# Altium schematic symbol library Infineon Transceiver.SchLib: 31 symbols (part 2 of 2)
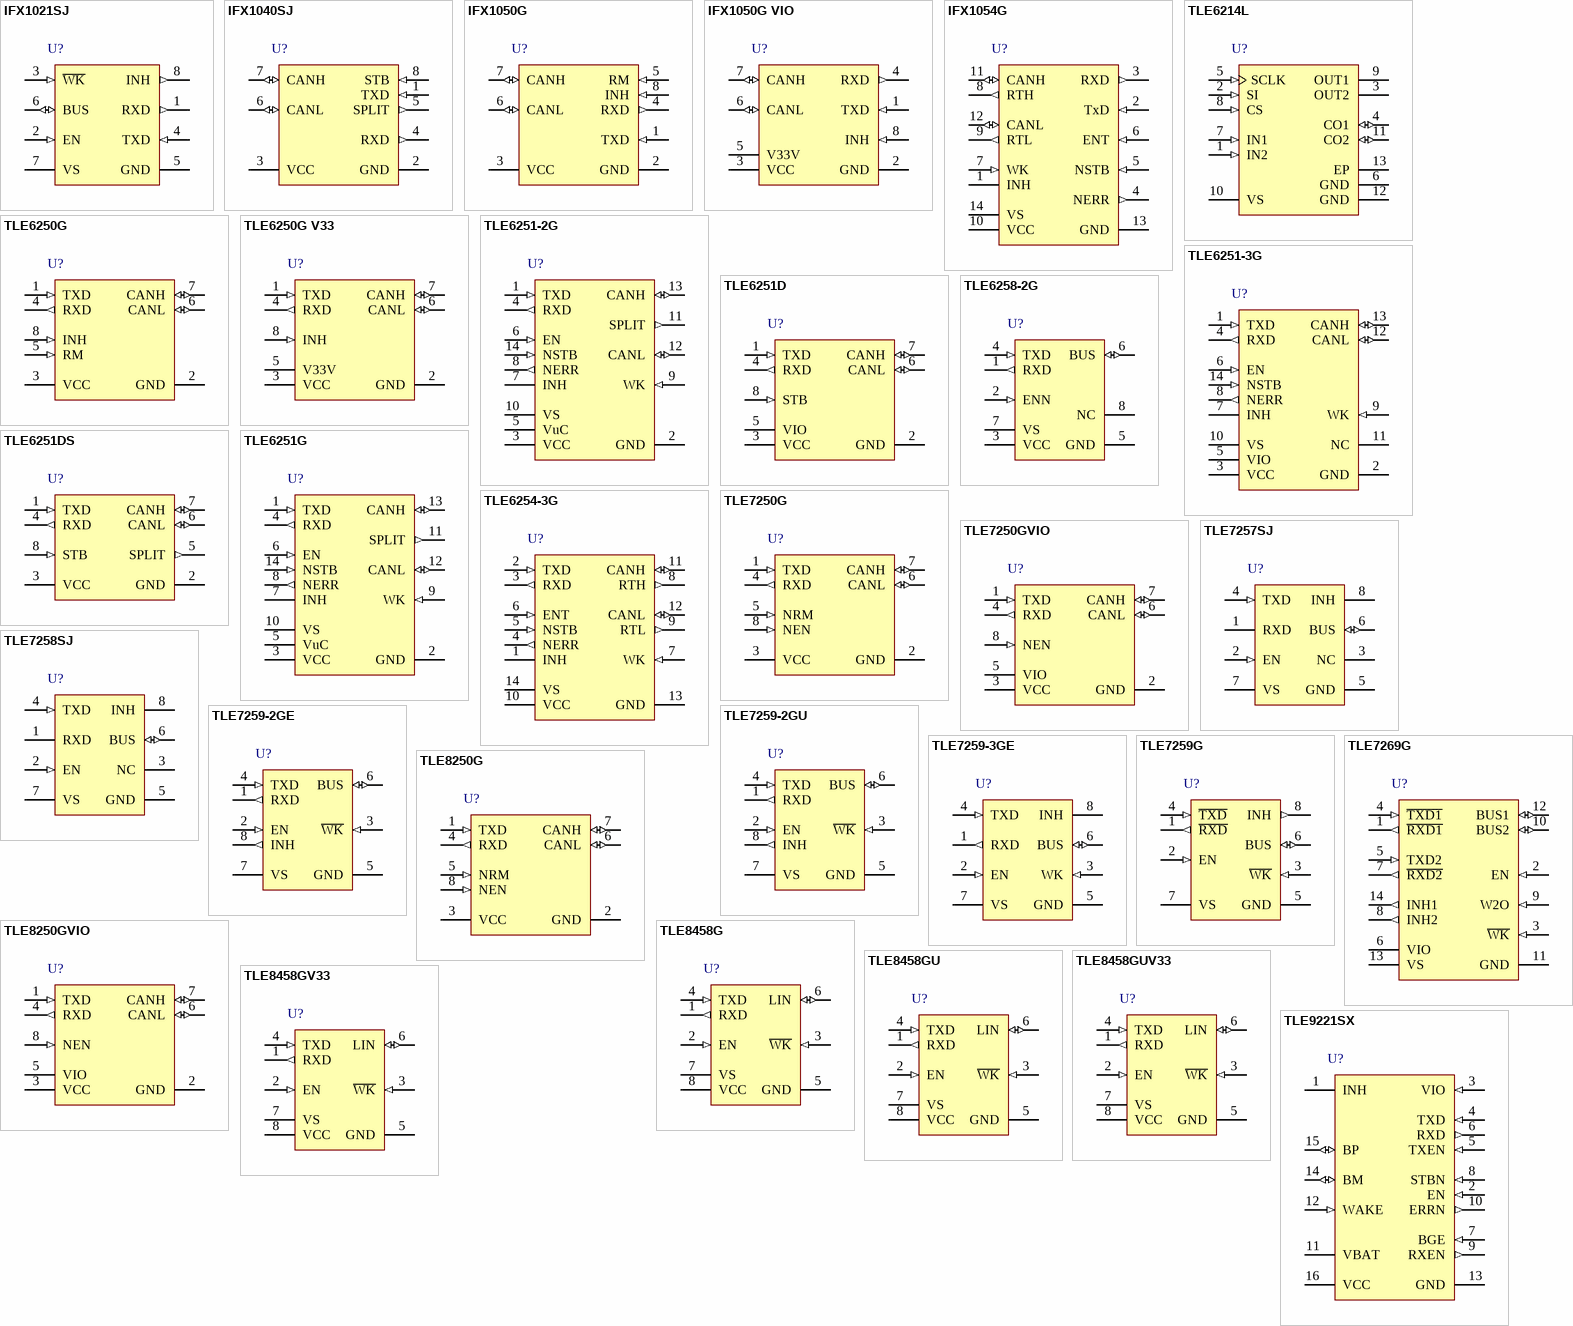
[diagram p1: symbols IFX1021SJ to TLE9221SX]

## TLE7259-2GE
designator U?
LIN Transceiver, 20 kbit/s Transmission Rate, PG-DSO-8-16, Reel, Green; Manufacturer: Infineon; PartNumber: TLE7259-2GE; Bus Wake-up capability: TRUE; Quiescent Current (max.): < 10 uA sleep mode; Standards: LIN 1.2, 1.3, 2, 2.1; Wake-up inputs: Bus wake-up + wake-up pin; DatasheetVersion: Rev. 1.2; PackageVersion: Mar-07; PackageReference: PG-DSO-8-16; PackageDescription: 8-Pin Plastic (Green) Dual Small Outline Package, 4.9 x 3.9 mm Body, 1.27 mm Pitch; Supplier 1: Mouser; Supplier Part Number 1: 726-TLE7259-2GE; Supplier 2: Newark; Supplier Part Number 2: 79X2067; Supplier 3: Farnell; Supplier Part Number 3: 2432695; Supplier 4: Digi-Key; Supplier Part Number 4: TLE7259-2GEINTR-ND; Supplier 5: Digi-Key; Supplier Part Number 5: TLE7259-2GEINCT-ND; Supplier 6: Digi-Key; Supplier Part Number 6: TLE7259-2GEINDKR-ND; Green: TRUE; Halogen-free: TRUE; Packing: Reel; Transmission rate (max.): 20 kbit/s; Mounting Technology: Surface Mount; ComponentLink1Description: Manufacturer URL; ComponentLink1URL: http://www.infineon.com/; ComponentLink2Description: Datasheet; ComponentLink2URL: http://www.infineon.com/dgdl/TLE7259-2GE_DS_rev12.pdf?folderId=db3a3043163797a6011666d32a0c0de1&fileId=db3a3043163797a6011666d4dbb80de2&location=en.Products.Automotive_ICs.Automotive_Transceivers.LIN_Transceivers.DATASHEET.TLE7259-2GE_DS_rev12.pdf; ComponentLink3Description: Package Specification; ComponentLink3URL: http://www.infineon.com/dgdl/TLE7259-2GE_DS_rev12.pdf?folderId=db3a3043163797a6011666d32a0c0de1&fileId=db3a3043163797a6011666d4dbb80de2&location=en.Products.Automotive_ICs.Automotive_Transceivers.LIN_Transceivers.DATASHEET.TLE7259-2GE_DS_rev12.pdf
footprint INF-PG-DSO-8-16_N (SOP, 8-Leads, Body 4.9x3.9mm, Pitch 1.27mm, IPC Medium Density)
footprint INF-PG-DSO-8-16_L (SOP, 8-Leads, Body 4.9x3.9mm, Pitch 1.27mm, IPC High Density)
footprint INF-PG-DSO-8-16_M (SOP, 8-Leads, Body 4.9x3.9mm, Pitch 1.27mm, IPC Low Density)
pins: 1 RXD (out) "Receive data output; External Pull Up necessary LOW in dominant state, active LOW after a Wake-Up event at BUS or WK pin", 2 EN (in) "Enable input; integrated pull-down, device set to normal operation mode when HIGH", 3 ~{WK} (in) "Wake input; active LOW, negative edge triggered, internal pull-up", 4 TXD (in) "Transmit data input; integrated pull-down, LOW in dominant state; active LOW after Wake-Up via WK pin", 5 GND (power) "Ground", 6 BUS (io) "Bus input / output; LIN bus line input / output LOW in dominant state Internal termination and pull-up current source", 7 VS (power) "Battery supply input", 8 INH (out) "Inhibit output; battery supply related output HIGH (VS) in Normal and Stand-By operation mode can be used to control an external voltage regulator can be used to control external bus termination resistor when the device will (See Datasheet)"

## TLE7259-2GU
designator U?
LIN Transceiver, 10.4 kbit/s Transmission Rate, PG-DSO-8-16, Reel, Green; Manufacturer: Infineon; PartNumber: TLE7259-2GU; Bus Wake-up capability: TRUE; Quiescent Current (max.): < 10 uA sleep mode; Standards: LIN 1.2, 1.3, 2, 2.1, SAEJ2602; Wake-up inputs: Bus wake-up + wake-up pin; DatasheetVersion: Rev. 1.1; PackageVersion: Mar-07; PackageReference: PG-DSO-8-16; PackageDescription: 8-Pin Plastic (Green) Dual Small Outline Package, 4.9 x 3.9 mm Body, 1.27 mm Pitch; Supplier 1: Mouser; Supplier Part Number 1: 726-TLE7259-2GU; Supplier 2: Digi-Key; Supplier Part Number 2: TLE7259-2GUINTR-ND; Supplier 3: Digi-Key; Supplier Part Number 3: TLE7259-2GUINCT-ND; Supplier 4: Digi-Key; Supplier Part Number 4: TLE7259-2GUINDKR-ND; Green: TRUE; Halogen-free: TRUE; Packing: Reel; Transmission rate (max.): 10.4 kbit/s; Mounting Technology: Surface Mount; ComponentLink1Description: Manufacturer URL; ComponentLink1URL: http://www.infineon.com/; ComponentLink2Description: Datasheet; ComponentLink2URL: http://www.infineon.com/dgdl/TLE7259-2GU_DS_rev11.pdf?folderId=db3a3043163797a6011666d32a0c0de1&fileId=db3a304318f3fe29011909db15cd2a5f&location=en.Products.Automotive_ICs.Automotive_Transceivers.LIN_Transceivers.DATASHEET.TLE7259-2GU_DS_rev11.pdf; ComponentLink3Description: Package Specification; ComponentLink3URL: http://www.infineon.com/dgdl/TLE7259-2GE_DS_rev12.pdf?folderId=db3a3043163797a6011666d32a0c0de1&fileId=db3a3043163797a6011666d4dbb80de2&location=en.Products.Automotive_ICs.Automotive_Transceivers.LIN_Transceivers.DATASHEET.TLE7259-2GE_DS_rev12.pdf
footprint INF-PG-DSO-8-16_N (SOP, 8-Leads, Body 4.9x3.9mm, Pitch 1.27mm, IPC Medium Density)
footprint INF-PG-DSO-8-16_L (SOP, 8-Leads, Body 4.9x3.9mm, Pitch 1.27mm, IPC High Density)
footprint INF-PG-DSO-8-16_M (SOP, 8-Leads, Body 4.9x3.9mm, Pitch 1.27mm, IPC Low Density)
pins: 1 RXD (out) "Receive data output; External Pull Up necessary LOW in dominant state, active LOW after a Wake-Up event at BUS or WK pin", 2 EN (in) "Enable input; integrated pull-down, device set to normal operation mode when HIGH", 3 ~{WK} (in) "Wake input; active LOW, negative edge triggered, internal pull-up", 4 TXD (in) "Transmit data input; integrated pull-down, LOW in dominant state; active LOW after Wake-Up via WK pin", 5 GND (power) "Ground", 6 BUS (io) "Bus input / output; LIN bus line input / output LOW in dominant state Internal termination and pull-up current source", 7 VS (power) "Battery supply input", 8 INH (out) "Inhibit output; battery supply related output HIGH (VS) in Normal and Stand-By operation mode can be used to control an external voltage regulator can be used to control external bus termination resistor when the device will (See Datasheet)"

## TLE7259-3GE
designator U?
20 kbit/s LIN Transceiver, PG-DSO-8, Reel, Green; Manufacturer: Infineon; PartNumber: TLE7259-3GE; Additional Features: INH, EN, WK; Bus Wake-up capability: TRUE; Quiescent Current (max): < 10 uA sleep mode; Standards: LIN 1.2, 1.3, 2.0, 2.1, 2.2, 2.2A; Wake-up inputs: Bus wake-up + wake-up pin; DatasheetVersion: Rev. 1.0; PackageVersion: Mar-07; PackageReference: PG-DSO-8-16; PackageDescription: 8-Pin Plastic (Green) Dual Small Outline Package, 4.9 x 3.9 mm Body, 1.27 mm Pitch; Supplier 1: Mouser; Supplier Part Number 1: N/A; Green: TRUE; Halogen-free: TRUE; Packing: Reel; Transmission rate (max): 20 kbit/s; Mounting Technology: Surface Mount; ComponentLink1Description: Manufacturer URL; ComponentLink1URL: http://www.infineon.com/; ComponentLink2Description: Datasheet; ComponentLink2URL: http://www.infineon.com/dgdl/TLE7259-3_DS_rev10.pdf?folderId=db3a3043163797a6011666d32a0c0de1&fileId=db3a304340cdf0fd0140de8603fc0085; ComponentLink3Description: Package Specification; ComponentLink3URL: http://www.infineon.com/cms/packages/SMD_-_Surface_Mounted_Devices/P-PG-DSO/P-PG-DSO-08-16x_-24x_-25x_-28x_-31x_-33x_-36x_-44x_-49.html?__locale=en
footprint INF-PG-DSO-8-16_N (SOP, 8-Leads, Body 4.9x3.9mm, Pitch 1.27mm, IPC Medium Density)
footprint INF-PG-DSO-8-16_L (SOP, 8-Leads, Body 4.9x3.9mm, Pitch 1.27mm, IPC High Density)
footprint INF-PG-DSO-8-16_M (SOP, 8-Leads, Body 4.9x3.9mm, Pitch 1.27mm, IPC Low Density)
pins: 1 RXD (out) "Receive data output", 2 EN (in) "Enable input", 3 WK (in) "Wake input", 4 TXD (in) "Transmit data input", 5 GND (power) "Ground", 6 BUS (io) "Bus input / output", 7 VS (power) "Battery supply input", 8 INH (hiz) "Inhibit output"

## TLE7259G
designator U?
LIN Transceiver, -40 to 150 degC, PG-DSO-8-3, Reel; Manufacturer: Infineon; PartNumber: TLE7259G; Green: FALSE; DatasheetVersion: Rev. 2.1; PackageReference: PG-DSO-8-3; PackageDescription: 8-Pin Plastic (Green) Dual Small Outline Package, 4.9 x 3.9 mm Body, 1.27 mm Pitch; Supplier 1: Mouser; Supplier Part Number 1: 726-TLE7259G; Supplier 2: Digi-Key; Supplier Part Number 2: TLE7259GTR-ND; Supplier 3: Digi-Key; Supplier Part Number 3: TLE7259GCT-ND; Supplier 4: Digi-Key; Supplier Part Number 4: TLE7259GDKR-ND; Halogen-free: FALSE; Mounting Technology: Surface Mount; ComponentLink1Description: Manufacturer URL; ComponentLink1URL: http://www.infineon.com/; ComponentLink2Description: Datasheet; ComponentLink2URL: http://www.infineon.com/dgdl/TLE7259G_DS_V21.pdf?folderId=db3a304412b407950112b408e8c90004&fileId=db3a304412b407950112b436c8ec66cc&location=en.Products.Automotive_ICs.Automotive_Transceivers.LIN_Transceivers.DATASHEET.TLE7259G_DS_V21.pdf; ComponentLink3Description: Package Specification; ComponentLink3URL: http://www.infineon.com/cms/packages/SMD_-_Surface_Mounted_Devices/P-PG-DSO/P-PG-DSO-08-03x_-6x_-7x_-8x_-10x_-13x_-15x_-18x_-19x_-20x_-23.html?__locale=en
footprint INF-PG-DSO-8-3_N (SOP, 8-Leads, Body 4.9x3.9mm, Pitch 1.27mm, IPC Medium Density)
footprint INF-PG-DSO-8-3_L (SOP, 8-Leads, Body 4.9x3.9mm, Pitch 1.27mm, IPC High Density)
footprint INF-PG-DSO-8-3_M (SOP, 8-Leads, Body 4.9x3.9mm, Pitch 1.27mm, IPC Low Density)
pins: 1 ~{RXD} (out) "Receive data output; External Pull Up necessary LOW in dominant state, active LOW after a wake-up event at Bus or WK pin", 2 EN (in) "Enable input; integrated pull-down, device in normal operation mode when HIGH", 3 ~{WK} (in) "Wake input; active LOW, negative edge triggered, internal pull-up", 4 ~{TXD} (in) "Transmit data input; integrated pull-down, LOW in dominant state; active LOW after wake-up via WK pin", 5 GND (power) "Ground", 6 BUS (io) "Bus output/input; LIN bus line input/output LOW in dominant state Internal pull-up", 7 VS (power) "Battery supply input", 8 INH (out) "Inhibit output; battery supply related output HIGH (VS) in Normal and Stand-By operation mode can be used to control an external voltage regulator can be used to control external bus termination resistor when the device will (See Datasheet)"

## TLE7269G
designator U?
Twin LIN Transceiver, 20 kbit/s Transmission Rate, PG-DSO-14-24, Reel, Green; Manufacturer: Infineon; PartNumber: TLE7269G; Bus Wake-up capability: TRUE; Quiescent Current (max.): < 10 uA sleep mode; Standards: LIN 1.2, 1.3, 2, 2.1, SAEJ2602; Wake-up inputs: Bus wake-up + wake-up pin; DatasheetVersion: Rev. 1.2; PackageVersion: Jun-11; PackageReference: PG-DSO-14-24; PackageDescription: 14-Pin Plastic (Green) Dual Small Outline Package, 8.65 x 3.9 mm Body, 1.27 mm Pitch; Supplier 1: Mouser; Supplier Part Number 1: 726-TLE7269G; Supplier 2: Digi-Key; Supplier Part Number 2: TLE7269GTR-ND; Supplier 3: Digi-Key; Supplier Part Number 3: TLE7269GCT-ND; Supplier 4: Digi-Key; Supplier Part Number 4: TLE7269GDKR-ND; Green: TRUE; Halogen-free: TRUE; Packing: Reel; Transmission rate (max.): 20 kbit/s; Mounting Technology: Surface Mount; ComponentLink1Description: Manufacturer URL; ComponentLink1URL: http://www.infineon.com/; ComponentLink2Description: Datasheet; ComponentLink2URL: http://www.infineon.com/dgdl/TLE7269G_DS_12.pdf?folderId=db3a3043163797a6011666d32a0c0de1&fileId=db3a3043163797a6011666d6865a0de4&location=en.Products.Automotive_ICs.Automotive_Transceivers.LIN_Transceivers.DATASHEET.TLE7269G_DS_12.pdf; ComponentLink3Description: Package Specification; ComponentLink3URL: http://www.infineon.com/dgdl/TLE6251-3G_DS_rev11.pdf?folderId=db3a30431ed1d7b2011edadb13813703&fileId=db3a30433072cd8f0130746653050039&sId=db3a30443d67b5ca013d7f4322262b6a
footprint INF-PG-DSO-14-24_N (SOP, 14-Leads, Body 8.65x3.9mm, Pitch 1.27mm, IPC Medium Density)
footprint INF-PG-DSO-14-24_L (SOP, 14-Leads, Body 8.65x3.9mm, Pitch 1.27mm, IPC High Density)
footprint INF-PG-DSO-14-24_M (SOP, 14-Leads, Body 8.65x3.9mm, Pitch 1.27mm, IPC Low Density)
pins: 1 ~{RXD1} (out) "Receive data output 1; LOW in dominant state,active LOW after a Wake-Up event at BUS1 or WK pin", 2 EN (in) "Enable input; integrated pull-down,device set to normal operation mode when HIGH", 3 ~{WK} (in) "Wake input; active LOW, negative edge triggered, internal pull-up", 4 ~{TXD1} (in) "Transmit data input 1; intergrated pull-down, LOW in dominant state, active LOW after Wake-Up via WK pin", 5 TXD2 (in) "Transmit data input 2; intergrated pull-down, LOW in dominant state.", 6 VIO (power) "Logic Voltage supply input; 3.3V or 5V supply for the RxD and TxD pins", 7 ~{RXD2} (out) "Receive data output 2; LOW in dominant state, active LOW after a Wake-Up event at BUS2", 8 INH2 (out) "Inhibit output 2; battery supply related output. HIGH(Vs) in Normal and Stand-By operation mode. can be used to control an external voltage regulator. can be used to control external bus termination resistor when the device (See Datasheet)", 9 W2O (in) "Wake BUS 2 OFF; swirch off Wake-Up feature on BUS 2; active HIGH, integrated pull-down", 10 BUS2 (io) "Bus 2 input/output. LIN bus line input/output. LOW in dominant state. Inernal termination and pull-up current source", 11 GND (power) "Ground", 12 BUS1 (io) "Bus 1 input/output. LIN bus line input/output. LOW in dominant state. Inernal termination and pull-up current source", 13 VS (power) "Battery supply input", 14 INH1 (out) "Inhibit output 1; battery supply related output. HIGH(Vs) in Normal and Stand-By operation mode. can be used to control an external voltage regulator. can be used to control external bus termination resistor when the device (See Datasheet)"

## TLE8250G
designator U?
High Speed CAN-Transceiver, 1 Mbit/s Transmission Rate, PG-DSO-8-16, Reel, Green; Manufacturer: Infineon; PartNumber: TLE8250G; Bus Wake-up capability: FALSE; Green: TRUE; Quiescent Current (max.): < 15 uA @ 5V standby; Standards: ISO11898-2; Wake-up inputs: no; DatasheetVersion: Rev. 1.0; PackageVersion: Mar-07; PackageReference: PG-DSO-8-16; PackageDescription: 8-Pin Plastic (Green) Dual Small Outline Package, 4.9 x 3.9 mm Body, 1.27 mm Pitch; Supplier 1: Mouser; Supplier Part Number 1: 726-TLE8250G; Supplier 2: Digi-Key; Supplier Part Number 2: TLE8250G-ND; Group: High Speed; Halogen-free: TRUE; Packing: Reel; Transmission rate max: 1 Mbit/s; Mounting Technology: Surface Mount; ComponentLink1Description: Manufacturer URL; ComponentLink1URL: http://www.infineon.com/; ComponentLink2Description: Datasheet; ComponentLink2URL: http://www.infineon.com/dgdl/CAN-Transceiver-TLE8250G-data-sheet-Infineon.pdf?folderId=db3a30431ed1d7b2011edadb13813703&fileId=db3a304329a0f6ee0129a18e35e40013&location=en.Products.Automotive_ICs.Automotive_Transceivers.CAN_Transceivers.DATASHEET.CAN-Transceiver-TLE8250G-data-sheet-Infineon.pdf; ComponentLink3Description: Package Specification; ComponentLink3URL: http://www.infineon.com/dgdl/TLE7259-2GE_DS_rev12.pdf?folderId=db3a3043163797a6011666d32a0c0de1&fileId=db3a3043163797a6011666d4dbb80de2&location=en.Products.Automotive_ICs.Automotive_Transceivers.LIN_Transceivers.DATASHEET.TLE7259-2GE_DS_rev12.pdf
footprint INF-PG-DSO-8-16_N (SOP, 8-Leads, Body 4.9x3.9mm, Pitch 1.27mm, IPC Medium Density)
footprint INF-PG-DSO-8-16_L (SOP, 8-Leads, Body 4.9x3.9mm, Pitch 1.27mm, IPC High Density)
footprint INF-PG-DSO-8-16_M (SOP, 8-Leads, Body 4.9x3.9mm, Pitch 1.27mm, IPC Low Density)
pins: 1 TXD (in) "Transmit Data Input; internal pull-up to VCC, "low" for "dominant" state.", 2 GND (power) "Ground", 3 VCC (power) "Transceiver Supply Voltage; 100 nF decoupling capacitor to GND required.", 4 RXD (out) "Receive Data Output; "low"  in "dominant" state.", 5 NRM (in) "Not Receive-only Mode Input ;  control input for selecting receive-only mode, internal pull-up, to VCC , "low" for receive-only mode.", 6 CANL (io) "CAN Bus Low Level I/O; "low" in "dominant" state.", 7 CANH (io) "CAN Bus Low Level I/O; "high" in "dominant" state.", 8 NEN (in) "Not Enable Input ;  internal pull-up to VCC ,  "low" to select normal-operation mode or receive-only mode."

## TLE8250GVIO
designator U?
High Speed CAN-Transceiver, 1 Mbit/s Transmission Rate, PG-DSO-8-16, Reel, Green; Manufacturer: Infineon; PartNumber: TLE8250GVIO; Bus Wake-up capability: FALSE; Green: TRUE; Quiescent Current (max.): < 15 uA @ 5V standby; Standards: ISO11898-2; Wake-up inputs: no; DatasheetVersion: Rev. 1.0; PackageVersion: Mar-07; PackageReference: PG-DSO-8-16; PackageDescription: 8-Pin Plastic (Green) Dual Small Outline Package, 4.9 x 3.9 mm Body, 1.27 mm Pitch; Supplier 1: Mouser; Supplier Part Number 1: 726-TLE8250GVIO; Supplier 2: Digi-Key; Supplier Part Number 2: TLE8250GVIO-ND; Group: High Speed; Halogen-free: TRUE; Packing: Reel; Transmission rate max: 1 Mbit/s; Mounting Technology: Surface Mount; ComponentLink1Description: Manufacturer URL; ComponentLink1URL: http://www.infineon.com/; ComponentLink2Description: Datasheet; ComponentLink2URL: http://www.infineon.com/dgdl/TLE8250GVIO_DS_Rev10.pdf?folderId=db3a30431ed1d7b2011edadb13813703&fileId=db3a30432b57a660012b67ea91880b46&location=en.Products.Automotive_ICs.Automotive_Transceivers.CAN_Transceivers.DATASHEET.TLE8250GVIO_DS_Rev10.pdf; ComponentLink3Description: Package Specification; ComponentLink3URL: http://www.infineon.com/dgdl/TLE7259-2GE_DS_rev12.pdf?folderId=db3a3043163797a6011666d32a0c0de1&fileId=db3a3043163797a6011666d4dbb80de2&location=en.Products.Automotive_ICs.Automotive_Transceivers.LIN_Transceivers.DATASHEET.TLE7259-2GE_DS_rev12.pdf
footprint INF-PG-DSO-8-16_N (SOP, 8-Leads, Body 4.9x3.9mm, Pitch 1.27mm, IPC Medium Density)
footprint INF-PG-DSO-8-16_L (SOP, 8-Leads, Body 4.9x3.9mm, Pitch 1.27mm, IPC High Density)
footprint INF-PG-DSO-8-16_M (SOP, 8-Leads, Body 4.9x3.9mm, Pitch 1.27mm, IPC Low Density)
pins: 1 TXD (in) "Transmit Data Input; internal pull-up to VIO, "low" for "dominant" state.", 2 GND (power) "Ground", 3 VCC (power) "Transceiver Supply Voltage; 100 nF decoupling capacitor to GND required.", 4 RXD (out) "Receive Data Output; "low" for "dominant" state.", 5 VIO (power) "Digital Supply Voltage Input; supply voltage input to adapt the logical input and output voltage levels of the transceiver to the microcontroller supply. 100 nF decoupling capacitor to GND required.", 6 CANL (io) "CAN Bus Low Level I/O; "low" in "dominant" state.", 7 CANH (io) "CAN Bus High Level I/O; "high" in "dominant" state.", 8 NEN (in) "Not Enable Input ;  internal pull-up to VIO, "low" for normal-operating mode."

## TLE8458G
designator U?
LIN Transceiver with integrated Low Drop Voltage Regulator, 20 kbit/s Transmission Rate, PG-DSO-8-16, Reel, Green; Manufacturer: Infineon; PartNumber: TLE8458G; Bus Wake-up capability: TRUE; Quiescent Current (max.): < 10 uA sleep mode; Standards: LIN 1.2, 1.3, 2, 2.1, SAEJ2602; Wake-up inputs: Bus wake-up + wake-up pin; DatasheetVersion: Rev. 1.01; PackageVersion: Mar-07; PackageReference: PG-DSO-8-16; PackageDescription: 8-Pin Plastic (Green) Dual Small Outline Package, 4.9 x 3.9 mm Body, 1.27 mm Pitch; Supplier 1: Mouser; Supplier Part Number 1: 726-TLE8458G; Supplier 2: Digi-Key; Supplier Part Number 2: TLE8458G-ND; Green: TRUE; Halogen-free: TRUE; Packing: Reel; Transmission rate (max.): 20 kbit/s; Mounting Technology: Surface Mount; ComponentLink1Description: Manufacturer URL; ComponentLink1URL: http://www.infineon.com/; ComponentLink2Description: Datasheet; ComponentLink2URL: http://www.infineon.com/dgdl/DataSheet_TLE8458Gx%5B1%5D.pdf?folderId=db3a3043163797a6011666d32a0c0de1&fileId=db3a304320d39d590121f2948c610a82&location=en.Products.Automotive_ICs.Automotive_Transceivers.LIN_Transceivers.DATASHEET.DataSheet_TLE8458Gx[1].pdf; ComponentLink3Description: Package Specification; ComponentLink3URL: http://www.infineon.com/dgdl/TLE7259-2GE_DS_rev12.pdf?folderId=db3a3043163797a6011666d32a0c0de1&fileId=db3a3043163797a6011666d4dbb80de2&location=en.Products.Automotive_ICs.Automotive_Transceivers.LIN_Transceivers.DATASHEET.TLE7259-2GE_DS_rev12.pdf
footprint INF-PG-DSO-8-16_N (SOP, 8-Leads, Body 4.9x3.9mm, Pitch 1.27mm, IPC Medium Density)
footprint INF-PG-DSO-8-16_L (SOP, 8-Leads, Body 4.9x3.9mm, Pitch 1.27mm, IPC High Density)
footprint INF-PG-DSO-8-16_M (SOP, 8-Leads, Body 4.9x3.9mm, Pitch 1.27mm, IPC Low Density)
pins: 1 RXD (out) "Receive Data Output; Low in dominant state, active low after a wake-up event on BUS or WK pin.", 2 EN (in) "Enable Input; Integrated pull-down resistor, device set to normal operation mode when HIGH.", 3 ~{WK} (in) "Wake-up Input; Active LOW, negative edge triggered, internal pull-up.", 4 TXD (in) "Transmit Data Input; Integrated pull-down resistor, LOW in dominant state. Active LOW after wake-up via WK pin.", 5 GND (power) "Ground", 6 LIN (io) "Bus Output / Input; LIN bus input / Output, LOW in dominant state, Internal termination and pull - up current source.", 7 VS (power) "Battery Supply Input", 8 VCC (power) "Output Voltage; Decouple to GND with a capacitor CVcc = 470 nF, ESR < 6 O at 10 kHz, Active during Normal Mode, disabled in Sleep Mode."

## TLE8458GU
designator U?
LIN Transceiver with Integrated Low Drop Voltage Regulator, 10.4 kbit/s Transmission Rate, PG-DSO-8-16, Reel, Green; Manufacturer: Infineon; PartNumber: TLE8458GU; Bus Wake-up capability: TRUE; Quiescent Current (max.): < 10 uA sleep mode; Standards: LIN 1.2, 1.3, 2, 2.1, SAEJ2602; Wake-up inputs: Bus wake-up + wake-up pin; DatasheetVersion: Rev. 1.01; PackageVersion: Mar-07; PackageReference: PG-DSO-8-16; PackageDescription: 8-Pin Plastic (Green) Dual Small Outline Package, 4.9 x 3.9 mm Body, 1.27 mm Pitch; Supplier 1: Mouser; Supplier Part Number 1: 726-TLE8458GU; Supplier 2: Digi-Key; Supplier Part Number 2: TLE8458GU-ND; Green: TRUE; Halogen-free: TRUE; Packing: Reel; Transmission rate (max.): 10.4 kbit/s; Mounting Technology: Surface Mount; ComponentLink1Description: Manufacturer URL; ComponentLink1URL: http://www.infineon.com/; ComponentLink2Description: Datasheet; ComponentLink2URL: http://www.infineon.com/dgdl/DataSheet_TLE8458Gx%5B1%5D.pdf?folderId=db3a3043163797a6011666d32a0c0de1&fileId=db3a304320d39d590121f2948c610a82&location=en.Products.Automotive_ICs.Automotive_Transceivers.LIN_Transceivers.DATASHEET.DataSheet_TLE8458Gx[1].pdf; ComponentLink3Description: Package Specification; ComponentLink3URL: http://www.infineon.com/dgdl/TLE7259-2GE_DS_rev12.pdf?folderId=db3a3043163797a6011666d32a0c0de1&fileId=db3a3043163797a6011666d4dbb80de2&location=en.Products.Automotive_ICs.Automotive_Transceivers.LIN_Transceivers.DATASHEET.TLE7259-2GE_DS_rev12.pdf
footprint INF-PG-DSO-8-16_N (SOP, 8-Leads, Body 4.9x3.9mm, Pitch 1.27mm, IPC Medium Density)
footprint INF-PG-DSO-8-16_L (SOP, 8-Leads, Body 4.9x3.9mm, Pitch 1.27mm, IPC High Density)
footprint INF-PG-DSO-8-16_M (SOP, 8-Leads, Body 4.9x3.9mm, Pitch 1.27mm, IPC Low Density)
pins: 1 RXD (out) "Receive Data Output; Low in dominant state, active low after a wake-up event on BUS or WK pin.", 2 EN (in) "Enable Input; Integrated pull-down resistor, device set to normal operation mode when HIGH.", 3 ~{WK} (in) "Wake-up Input; Active LOW, negative edge triggered, internal pull-up.", 4 TXD (in) "Transmit Data Input; Integrated pull-down resistor, LOW in dominant state. Active LOW after wake-up via WK pin.", 5 GND (power) "Ground", 6 LIN (io) "Bus Output / Input; LIN bus input / Output, LOW in dominant state, Internal termination and pull - up current source.", 7 VS (power) "Battery Supply Input", 8 VCC (power) "Output Voltage; Decouple to GND with a capacitor CVcc = 470 nF, ESR < 6 O at 10 kHz, Active during Normal Mode, disabled in Sleep Mode."

## TLE8458GUV33
designator U?
LIN Transceiver with Integrated Low Drop Voltage Regulator, 10.4 kbit/s Transmission Rate, PG-DSO-8-16, Reel, Green; Manufacturer: Infineon; PartNumber: TLE8458GUV33; Bus Wake-up capability: TRUE; Quiescent Current (max.): < 10 uA sleep mode; Standards: LIN 1.2, 1.3, 2, 2.1, SAEJ2602; Wake-up inputs: Bus wake-up + wake-up pin; DatasheetVersion: Rev. 1.01; PackageVersion: Mar-07; PackageReference: PG-DSO-8-16; PackageDescription: 8-Pin Plastic (Green) Dual Small Outline Package, 4.9 x 3.9 mm Body, 1.27 mm Pitch; Green: TRUE; Halogen-free: TRUE; Packing: Reel; Transmission rate (max.): 10.4 kbit/s; Mounting Technology: Surface Mount; ComponentLink1Description: Manufacturer URL; ComponentLink1URL: http://www.infineon.com/; ComponentLink2Description: Datasheet; ComponentLink2URL: http://www.infineon.com/dgdl/DataSheet_TLE8458Gx%5B1%5D.pdf?folderId=db3a3043163797a6011666d32a0c0de1&fileId=db3a304320d39d590121f2948c610a82&location=en.Products.Automotive_ICs.Automotive_Transceivers.LIN_Transceivers.DATASHEET.DataSheet_TLE8458Gx[1].pdf; ComponentLink3Description: Package Specification; ComponentLink3URL: http://www.infineon.com/dgdl/TLE7259-2GE_DS_rev12.pdf?folderId=db3a3043163797a6011666d32a0c0de1&fileId=db3a3043163797a6011666d4dbb80de2&location=en.Products.Automotive_ICs.Automotive_Transceivers.LIN_Transceivers.DATASHEET.TLE7259-2GE_DS_rev12.pdf
footprint INF-PG-DSO-8-16_N (SOP, 8-Leads, Body 4.9x3.9mm, Pitch 1.27mm, IPC Medium Density)
footprint INF-PG-DSO-8-16_L (SOP, 8-Leads, Body 4.9x3.9mm, Pitch 1.27mm, IPC High Density)
footprint INF-PG-DSO-8-16_M (SOP, 8-Leads, Body 4.9x3.9mm, Pitch 1.27mm, IPC Low Density)
pins: 1 RXD (out) "Receive Data Output; Low in dominant state, active low after a wake-up event on BUS or WK pin.", 2 EN (in) "Enable Input; Integrated pull-down resistor, device set to normal operation mode when HIGH.", 3 ~{WK} (in) "Wake-up Input; Active LOW, negative edge triggered, internal pull-up.", 4 TXD (in) "Transmit Data Input; Integrated pull-down resistor, LOW in dominant state. Active LOW after wake-up via WK pin.", 5 GND (power) "Ground", 6 LIN (io) "Bus Output / Input; LIN bus input / Output, LOW in dominant state, Internal termination and pull - up current source.", 7 VS (power) "Battery Supply Input", 8 VCC (power) "Output Voltage; Decouple to GND with a capacitor CVcc = 470 nF, ESR < 6 O at 10 kHz, Active during Normal Mode, disabled in Sleep Mode."

## TLE8458GV33
designator U?
LIN Transceiver with Integrated Low Drop Voltage Regulator, 20 kbit/s Transmission Rate, PG-DSO-8-16, Reel, Green; Manufacturer: Infineon; PartNumber: TLE8458GV33; Bus Wake-up capability: TRUE; Quiescent Current (max.): < 10 uA sleep mode; Standards: LIN 1.2, 1.3, 2, 2.1, SAEJ2602; Wake-up inputs: Bus wake-up + wake-up pin; DatasheetVersion: Rev. 1.01; PackageVersion: Mar-07; PackageReference: PG-DSO-8-16; PackageDescription: 8-Pin Plastic (Green) Dual Small Outline Package, 4.9 x 3.9 mm Body, 1.27 mm Pitch; Green: TRUE; Halogen-free: TRUE; Packing: Reel; Transmission rate (max.): 20 kbit/s; Mounting Technology: Surface Mount; ComponentLink1Description: Manufacturer URL; ComponentLink1URL: http://www.infineon.com/; ComponentLink2Description: Datasheet; ComponentLink2URL: http://www.infineon.com/dgdl/DataSheet_TLE8458Gx%5B1%5D.pdf?folderId=db3a3043163797a6011666d32a0c0de1&fileId=db3a304320d39d590121f2948c610a82&location=en.Products.Automotive_ICs.Automotive_Transceivers.LIN_Transceivers.DATASHEET.DataSheet_TLE8458Gx[1].pdf; ComponentLink3Description: Package Specification; ComponentLink3URL: http://www.infineon.com/dgdl/TLE7259-2GE_DS_rev12.pdf?folderId=db3a3043163797a6011666d32a0c0de1&fileId=db3a3043163797a6011666d4dbb80de2&location=en.Products.Automotive_ICs.Automotive_Transceivers.LIN_Transceivers.DATASHEET.TLE7259-2GE_DS_rev12.pdf
footprint INF-PG-DSO-8-16_N (SOP, 8-Leads, Body 4.9x3.9mm, Pitch 1.27mm, IPC Medium Density)
footprint INF-PG-DSO-8-16_L (SOP, 8-Leads, Body 4.9x3.9mm, Pitch 1.27mm, IPC High Density)
footprint INF-PG-DSO-8-16_M (SOP, 8-Leads, Body 4.9x3.9mm, Pitch 1.27mm, IPC Low Density)
pins: 1 RXD (out) "Receive Data Output; Low in dominant state, active low after a wake-up event on BUS or WK pin.", 2 EN (in) "Enable Input; Integrated pull-down resistor, device set to normal operation mode when HIGH.", 3 ~{WK} (in) "Wake-up Input; Active LOW, negative edge triggered, internal pull-up.", 4 TXD (in) "Transmit Data Input; Integrated pull-down resistor, LOW in dominant state. Active LOW after wake-up via WK pin.", 5 GND (power) "Ground", 6 LIN (io) "Bus Output / Input; LIN bus input / Output, LOW in dominant state, Internal termination and pull - up current source.", 7 VS (power) "Battery Supply Input", 8 VCC (power) "Output Voltage; Decouple to GND with a capacitor CVcc = 470 nF, ESR < 6 O at 10 kHz, Active during Normal Mode, disabled in Sleep Mode."

## TLE9221SX
designator U?
10 Mbit/s FlexRay Transceiver, PG-SSOP-16, Reel, Green; Manufacturer: Infineon; PartNumber: TLE9221SX; Additional Features: STBN, EN, WAKE, ERRN, BGE, INH, Vio, RxEN; Bus Wake-up capability: TRUE; Quiescent Current (max): < 65 uA sleep mode; Standards: EPL.3.0.1; Wake-up inputs: Bus wake-up + wake-up pin; DatasheetVersion: Rev. 1.10; PackageVersion: Jan-13; PackageReference: PG-SSOP-16-2; PackageDescription: 16-Pin Plastic (Green) Shrink Small Outline Package, 6.2 x 5.3 mm Body, 0.65 mm Pitch; Supplier 1: Mouser; Supplier Part Number 1: N/A; Green: TRUE; Halogen-free: TRUE; Packing: Reel; Transmission rate (max): 10 Mbit/s; Mounting Technology: Surface Mount; ComponentLink1Description: Manufacturer URL; ComponentLink1URL: http://www.infineon.com/; ComponentLink2Description: Datasheet; ComponentLink2URL: http://www.infineon.com/dgdl/TLE9221SX_DS_Rev110.pdf?folderId=db3a30431ed1d7b2011edadb13813703&fileId=db3a30433f2e70c5013f322b260f1099; ComponentLink3Description: Package Specification; ComponentLink3URL: http://www.infineon.com/dgdl/PG-SSOP-16-2-Package_Overview.pdf?folderId=db3a30431689f4420116d2e7c31c0be6&fileId=db3a30433acf32c9013ae6856e477393
footprint INF-PG-SSOP-16-2_V (SOP, 16-Leads, Body 6.2x5.3mm, Pitch 0.65mm)
pins: 1 INH (hiz) "Inhibit Output; open drain output to control external circuitry,"high" impedance in BD_Sleep mode.", 2 EN (in) "Enable Mode Control Input; digital input for the mode selection, integrated "pull-down" resistor to GND.", 3 VIO (in) "Level Shift Input; reference voltage for the digital input and output pins,100 nF decoupling capacitor to GND recommended.", 4 TXD (in) "Transmit Data Input; integrated "pull-down" current source to GND,logical "low" to drive "Data_0" to the FlexRay bus.", 5 TXEN (in) "Transmitter Enable Not Input; integrated "pull-up" current source to VIO, logical "low" to enable the Transmitter.", 6 RXD (out) "Receive Data Output; logical "low" while "Data_0" is on the FlexRay bus, output voltage adapted to the voltage on the VIO level shift input.", 7 BGE (in) "Bus Guardian Enable Input; logical "high" to enable the Transmitter, integrated "pull-down" current source to GND.", 8 STBN (in) "Stand-by Not Mode Control Input; digital input for the mode selection, integrated "pull-down" current source to GND.", 9 RXEN (out) "Receive Data Enable Not Output; logical "low" indicates activity on the FlexRay bus, logical "high" in case the FlexRay Bus is "Idle", output voltage adapted to the voltage on the VIO level shift input.", 10 ERRN (out) "Error Not Diagnosis Output; logical "low" in failure case, output voltage adapted to the voltage on the VIO level shift input.", 11 VBAT (power) "Battery Voltage Supply; 100 nF decoupling capacitor to GND recommended.", 12 WAKE (in) "Wake-up Input; local wake-up input, terminated against GND and VBAT, wake-up input sensitive to signal changes in both directions.", 13 GND (power) "Ground;", 14 BM (io) "Bus Line Minus; negative input/output to the FlexRay bus.", 15 BP (io) "Bus Line Plus; positive input/output to the FlexRay bus.", 16 VCC (power) "Supply Voltage;"